# Altium footprint library connector.PcbLib: 63 footprints (part 4 of 4)
Each footprint in its own frame and in the unit in brackets; x right, y up, seen from the top. Pads: shape width x height; smd on the part's side, far side on the other; paste and mask are expansions set on the pad; w line width, h text height; cw(c..) or ccw(c..) is an arc to the next point about the centre after c.
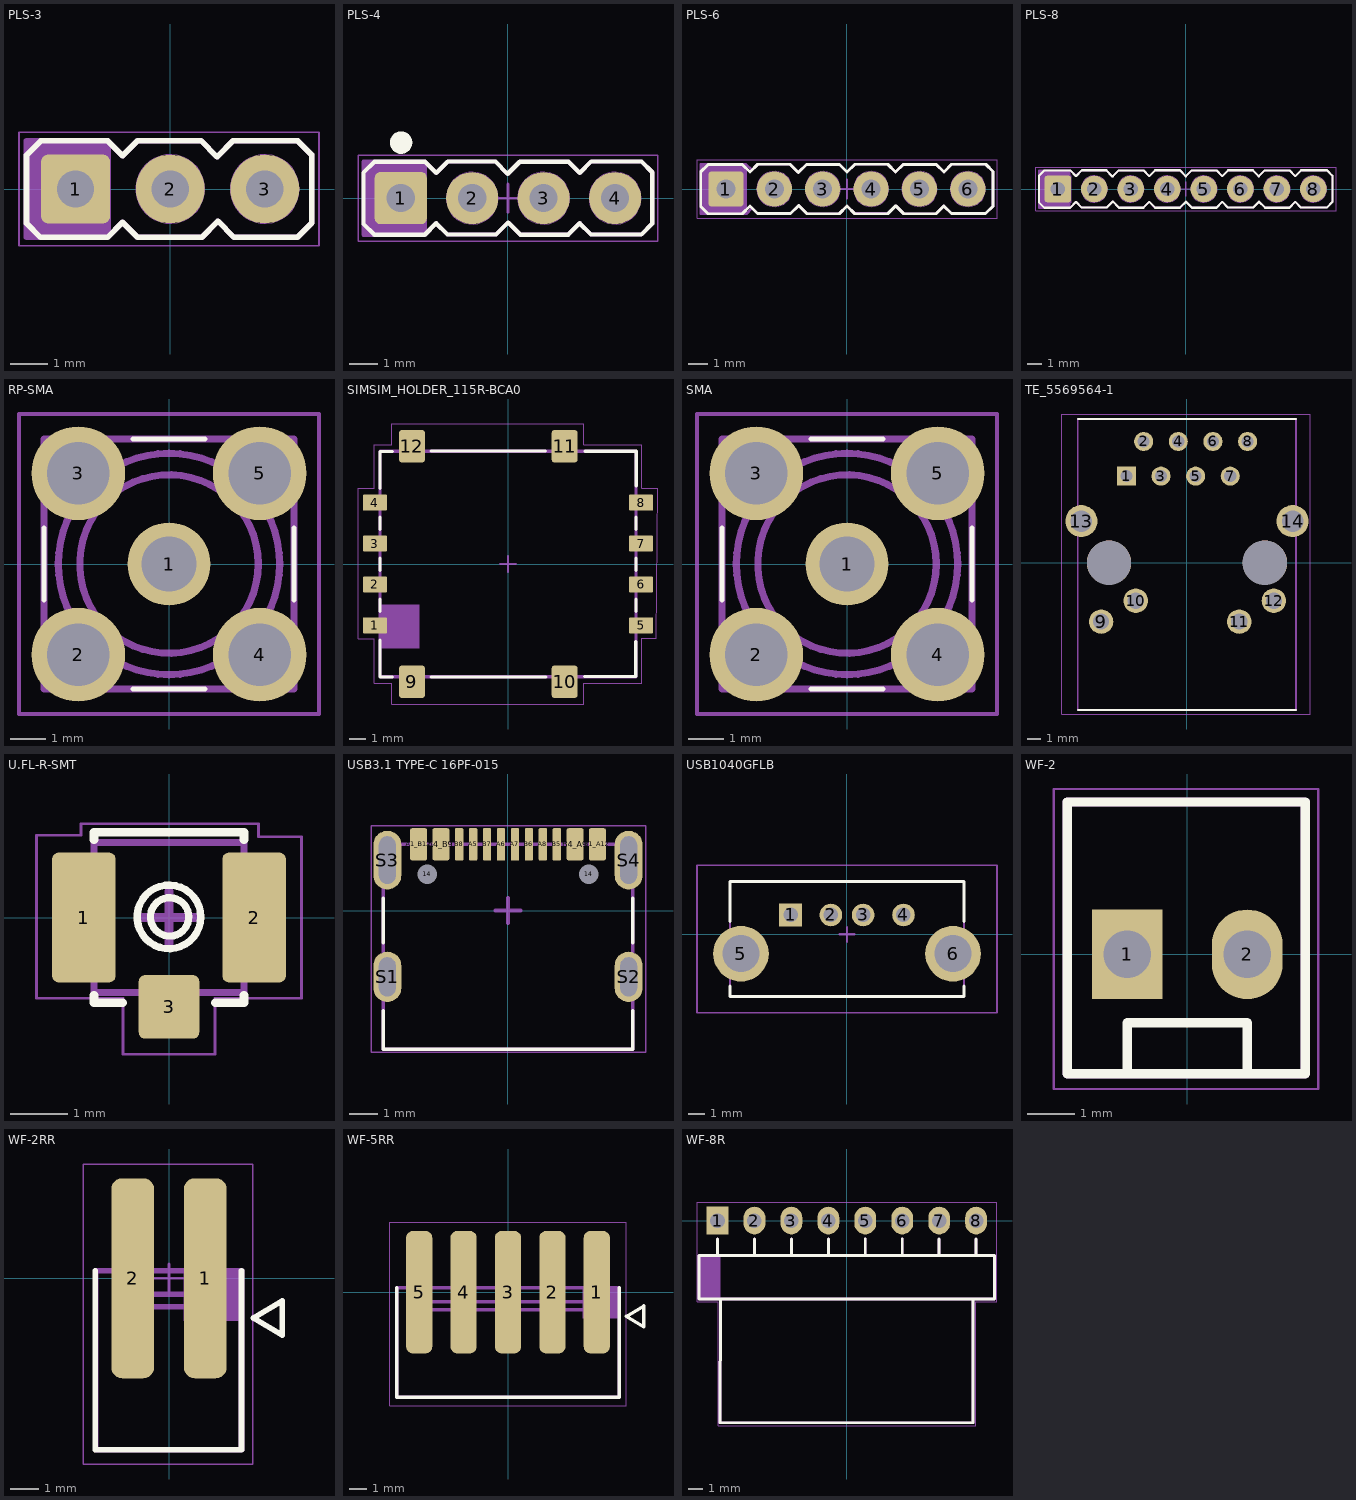
[diagram p3: the footprints below, top view; thin cyan lines are the x and y axes]

## PLS-3 [mm]
pads (3):
  rrect20% 1.85x1.85 hole 1: 1(-2.54,0)
  round 1.85 hole 1: 2(0,0) 3(2.54,0)
Top Overlay:
  lines w0.15: 1.26,-0.884 0.85,-1.294 -0.88,-1.294 -1.281,-0.893 -1.689,-1.3 -3.48,-1.3 -3.86,-0.92 -3.86,0.906 -3.471,1.294 -1.68,1.294 -1.279,0.893 -0.871,1.3 0.823,1.3 1.26,0.863 ; 1.28,-0.863 1.717,-1.3 3.411,-1.3 3.8,-0.911 3.8,0.914 3.42,1.294 1.69,1.294 1.28,0.884
Top Designator:
  text ".Designator" at -3.079,1.875 h0.6
Top Assembly:
  rectangle: -3.86,-1.3 -1.594,1.294
  lines w0.15: 1.26,-0.884 0.85,-1.294 -0.88,-1.294 -1.281,-0.893 -1.689,-1.3 -3.86,-1.3 -3.86,1.294 -1.68,1.294 -1.279,0.893 -0.871,1.3 0.823,1.3 1.26,0.863 ; 1.28,-0.863 1.717,-1.3 3.411,-1.3 3.8,-0.911 3.8,0.914 3.42,1.294 1.69,1.294 1.28,0.884
Bottom Assembly:
  circle w0.01: c0,0 r0.925
  circle w0.01: c2.54,0 r0.925
  lines w0.01: -3.465,-0.925 -3.465,0.925 -1.615,0.925 -1.615,-0.925 -3.465,-0.925
  text "1" at -2.73,-0.5 h1.5
Top Courtyard:
  lines w0.05: -4.06,-1.524 -4.06,1.524 3.995,1.524 3.995,-1.524 -4.06,-1.524
  lines w0.1: -0.5,0 0.5,0 ; 0,-0.5 0,0.5
3D body "PLS-3.step": height 8.7, standoff -2.9, extent -3.81,-1.27 3.81,1.27

## PLS-4 [mm]
pads (4):
  rrect20% 1.85x1.85 hole 1: 1(-3.81,0)
  round 1.85 hole 1: 2(-1.27,0) 3(1.27,0) 4(3.81,0)
Top Overlay:
  circle w0.4: c-3.8,1.975 r0.2
  lines w0.15: -0.01,-0.884 -0.42,-1.294 -2.15,-1.294 -2.551,-0.893 -2.959,-1.3 -4.75,-1.3 -5.13,-0.92 -5.13,0.906 -4.741,1.294 -2.95,1.294 -2.549,0.893 -2.141,1.3 -0.447,1.3 -0.01,0.863 ; 0.01,-0.863 0.447,-1.3 2.141,-1.3 2.549,-0.893 2.95,-1.294 4.741,-1.294 5.13,-0.906 5.13,0.92 4.75,1.3 2.959,1.3 2.551,0.893 2.15,1.294 0.42,1.294 0.01,0.884
Top Designator:
  text ".Designator" at -2.999,1.8 h0.6
Top Assembly:
  rectangle: -5.13,-1.3 -2.874,1.294
  lines w0.15: -0.01,-0.884 -0.42,-1.294 -2.15,-1.294 -2.551,-0.893 -2.959,-1.3 -5.13,-1.3 -5.13,1.294 -2.95,1.294 -2.549,0.893 -2.141,1.3 -0.447,1.3 -0.01,0.863 ; 0.01,-0.863 0.447,-1.3 2.141,-1.3 2.549,-0.893 2.95,-1.294 4.741,-1.294 5.13,-0.906 5.13,0.92 4.75,1.3 2.959,1.3 2.551,0.893 2.15,1.294 0.42,1.294 0.01,0.884
Bottom Assembly:
  circle w0.01: c-1.27,0 r0.925
  circle w0.01: c1.27,0 r0.925
  circle w0.01: c3.81,0 r0.925
  lines w0.01: -4.735,-0.925 -4.735,0.925 -2.885,0.925 -2.885,-0.925 -4.735,-0.925
  text "1" at -4,-0.5 h1.5
  text "4" at 3.425,-0.45 h1.5
Top Courtyard:
  lines w0.05: -5.33,-1.524 -5.33,1.524 5.334,1.524 5.334,-1.524 -5.33,-1.524
  lines w0.1: -0.5,0 0.5,0 ; 0,-0.5 0,0.5
3D body "PLS-4.step": height 8.6, standoff -3, extent -5.08,-1.27 5.08,1.27

## PLS-6 [mm]
pads (6):
  rrect20% 1.85x1.85 hole 1: 1(-6.35,0)
  round 1.85 hole 1: 2(-3.81,0) 3(-1.27,0) 4(1.27,0) 5(3.81,0) 6(6.35,0)
Top Overlay:
  lines w0.15: -2.55,-0.884 -2.96,-1.294 -4.69,-1.294 -5.091,-0.893 -5.499,-1.3 -7.29,-1.3 -7.67,-0.92 -7.67,0.906 -7.281,1.294 -5.49,1.294 -5.089,0.893 -4.681,1.3 -2.987,1.3 -2.55,0.863 ; -2.53,-0.863 -2.093,-1.3 -0.399,-1.3 0.009,-0.893 0.416,-1.3 2.141,-1.3 2.564,-0.877 2.987,-1.3 4.681,-1.3 5.089,-0.893 5.49,-1.294 7.281,-1.294 7.67,-0.906 7.67,0.92 7.29,1.3 5.499,1.3 5.091,0.893 4.69,1.294 2.96,1.294 2.55,0.884 ; -2.53,0.884 -2.12,1.294 -0.39,1.294 0.011,0.893 0.419,1.3 2.144,1.3 2.551,0.893
Top Designator:
  text ".Designator" at -2.624,1.825 h0.6
Top Assembly:
  rectangle: -7.67,-1.3 -5.25,1.294
  lines w0.15: -2.55,-0.884 -2.96,-1.294 -4.69,-1.294 -4.981,-1.003 -5.277,-1.3 -7.67,-1.3 -7.67,1.294 -5.294,1.294 -4.991,0.991 -4.681,1.3 -2.987,1.3 -2.55,0.863 ; -2.53,-0.863 -2.093,-1.3 -0.399,-1.3 0.009,-0.893 0.41,-1.294 2.147,-1.294 2.549,-0.893 ; -2.53,0.884 -2.12,1.294 -0.39,1.294 0.011,0.893 0.419,1.3 2.144,1.3 2.551,0.893 ; 2.55,0.884 2.96,1.294 4.69,1.294 5.091,0.893 5.499,1.3 7.29,1.3 7.67,0.92 7.67,-0.906 7.281,-1.294 5.49,-1.294 5.089,-0.893 4.681,-1.3 2.987,-1.3 2.591,-0.904
Bottom Assembly:
  circle w0.01: c-3.81,0 r0.925
  circle w0.01: c-1.27,0 r0.925
  circle w0.01: c1.27,0 r0.925
  circle w0.01: c3.81,0 r0.925
  circle w0.01: c6.35,0 r0.925
  lines w0.01: -7.275,-0.925 -7.275,0.925 -5.425,0.925 -5.425,-0.925 -7.275,-0.925
  text "1" at -6.54,-0.5 h1.5
  text "4" at 0.885,-0.45 h1.5
  text "4" at 5.965,-0.45 h1.5
Top Courtyard:
  lines w0.05: -7.87,-1.524 -7.87,1.524 7.882,1.524 7.882,-1.524 -7.87,-1.524
  lines w0.1: -0.5,0 0.5,0 ; 0,-0.5 0,0.5
3D body "PLS-6.step": height 8.7, standoff -2.9, extent -7.62,-1.27 7.62,1.27

## PLS-8 [mm]
pads (8):
  rrect20% 1.85x1.85 hole 1: 1(-8.89,0)
  round 1.85 hole 1: 2(-6.35,0) 3(-3.81,0) 4(-1.27,0) 5(1.27,0) 6(3.81,0) 7(6.35,0) 8(8.89,0)
Top Overlay:
  lines w0.15: -5.09,-0.884 -5.5,-1.294 -7.23,-1.294 -7.631,-0.893 -8.039,-1.3 -9.83,-1.3 -10.21,-0.92 -10.21,0.906 -9.821,1.294 -8.03,1.294 -7.629,0.893 -7.221,1.3 -5.527,1.3 -5.09,0.863 ; -5.07,-0.863 -4.633,-1.3 -2.939,-1.3 -2.531,-0.893 -2.124,-1.3 -0.399,-1.3 0.024,-0.877 0.447,-1.3 2.141,-1.3 2.549,-0.893 2.95,-1.294 4.687,-1.294 5.104,-0.877 5.527,-1.3 7.221,-1.3 7.629,-0.893 8.03,-1.294 9.821,-1.294 10.21,-0.906 10.21,0.92 9.83,1.3 8.039,1.3 7.631,0.893 7.23,1.294 5.5,1.294 5.091,0.885 4.676,1.3 2.959,1.3 2.551,0.893 2.15,1.294 0.42,1.294 0.01,0.884 ; -5.07,0.884 -4.66,1.294 -2.93,1.294 -2.529,0.893 -2.121,1.3 -0.396,1.3 0.011,0.893
Top Designator:
  text ".Designator" at -3.039,2.05 h0.6
Top Assembly:
  rectangle: -10.21,-1.3 -8.003,1.294
  lines w0.15: -5.09,-0.884 -5.5,-1.294 -7.23,-1.294 -7.63,-0.894 -8.037,-1.3 -10.21,-1.3 -10.21,1.294 -8.017,1.294 -7.622,0.899 -7.221,1.3 -5.527,1.3 -5.09,0.863 ; -5.07,-0.863 -4.633,-1.3 -2.939,-1.3 -2.531,-0.893 -2.13,-1.294 -0.393,-1.294 0.009,-0.893 ; -5.07,0.884 -4.66,1.294 -2.93,1.294 -2.529,0.893 -2.121,1.3 -0.396,1.3 0.011,0.893 ; 0.01,0.884 0.42,1.294 2.15,1.294 2.551,0.893 2.959,1.3 4.676,1.3 5.091,0.885 5.5,1.294 7.23,1.294 7.631,0.893 8.039,1.3 9.83,1.3 10.21,0.92 10.21,-0.906 9.821,-1.294 8.03,-1.294 7.629,-0.893 7.221,-1.3 5.527,-1.3 5.104,-0.877 4.687,-1.294 2.95,-1.294 2.549,-0.893 2.141,-1.3 0.447,-1.3 0.051,-0.904
Bottom Assembly:
  circle w0.01: c3.81,0 r0.925
  circle w0.01: c1.27,0 r0.925
  circle w0.01: c-1.27,0 r0.925
  circle w0.01: c-3.81,0 r0.925
  circle w0.01: c-6.35,0 r0.925
  circle w0.01: c8.89,0 r0.925
  circle w0.01: c6.35,0 r0.925
  lines w0.01: -9.815,-0.925 -7.965,-0.925 -7.965,0.925 -9.815,0.925 -9.815,-0.925
  text "4" at 3.425,-0.45 h1.5
  text "4" at -1.655,-0.45 h1.5
  text "1" at -9.08,-0.5 h1.5
  text "4" at 8.505,-0.45 h1.5
Top Courtyard:
  lines w0.05: -10.41,-1.524 10.46,-1.524 10.46,1.524 -10.41,1.524 -10.41,-1.524
  lines w0.1: -0.541,0 0.543,0 ; 0,-0.499 0,0.501
3D body "PLS-8.step": height 8.6, standoff -3, extent -10.16,-1.27 10.16,1.27

## RP-SMA [mm] "RP-SMA Connector Jack, Male Pin 50 Ohms Through Hole Solder"
pads (5):
  round 2.325 hole 1.55: 1(0,0)
  round 2.625 hole 1.75: 2(-2.54,-2.54) 3(-2.54,2.54) 4(2.54,-2.54) 5(2.54,2.54)
Top Overlay:
  lines w0.15: -3.5,-1 -3.5,1 ; -1,-3.5 1,-3.5 ; -1,3.5 1,3.5 ; 3.5,-1 3.5,1
Top Designator:
  text ".Designator" at -3.199,4.7 h0.6
Top Assembly:
  circle w0.2: c0,0 r0.5
  circle w0.2: c0,0 r3.1
  circle w0.2: c0,0 r2.5
  lines w0.2: -3.5,-3.5 -3.5,3.5 3.5,3.5 3.5,-3.5 -3.5,-3.5
Top Courtyard:
  lines w0.1: -0.5,0 0.5,0 ; 0,-0.5 0,0.5 ; -4.2,-4.2 -4.2,4.2 4.2,4.2 4.2,-4.2 -4.2,-4.2
3D body "1809925.stp": height 10.4, standoff -3.9, extent -3.5,-3.5 3.5,3.5

## SIMSIM_HOLDER_115R-BCA0 [mm]
pads (12):
  rrect15% 1.5x1 smd: 1(-8.25,-3.81) 2(-8.25,-1.27) 3(-8.25,1.27) 4(-8.25,3.81) 5(8.25,-3.81) 6(8.25,-1.27) 7(8.25,1.27) 8(8.25,3.81)
  rrect20% 1.6x2 smd: 9(-5.953,-7.3) 10(3.508,-7.3) 11(3.508,7.3) 12(-5.953,7.3)
Top Overlay:
  lines w0.2: -7.939,-2.935 -7.939,-2.173 ; -7.939,-0.395 -7.939,0.367 ; -7.939,2.145 -7.939,2.907 ; -7.934,-4.713 -7.934,-7.004 -7.172,-7.004 ; -7.934,4.685 -7.934,6.976 -7.172,6.976 ; -4.78,6.998 2.332,6.998 ; -4.759,-6.999 2.353,-6.999 ; 4.741,-6.974 7.916,-6.974 7.916,-4.815 ; 4.778,6.99 7.953,6.99 7.953,4.831 ; 7.936,-2.935 7.936,-2.173 ; 7.936,-0.395 7.936,0.367 ; 7.936,2.145 7.936,2.907
Top Designator:
  text ".Designator" at -3.749,9.3 h0.6
Top Assembly:
  rectangle: -8,-5.25 -5.5,-2.5
  lines w0.15: -7.93,-4.177 -8.68,-4.177 -8.68,-3.427 -7.93,-3.427 ; -7.93,-1.637 -8.68,-1.637 -8.68,-0.887 -7.93,-0.887 ; -7.93,0.903 -8.68,0.903 -8.68,1.653 -7.93,1.653 ; -7.93,3.443 -8.68,3.443 -8.68,4.193 -7.93,4.193 ; -6.462,7.009 -6.462,7.384 -5.462,7.384 -5.462,7.009 ; -6.443,-7.009 -6.443,-7.384 -5.443,-7.384 -5.443,-7.009 ; 2.998,7.009 2.998,7.384 3.998,7.384 3.998,7.009 ; 3.017,-7.009 3.017,-7.384 4.017,-7.384 4.017,-7.009 ; 7.93,-4.193 8.68,-4.193 8.68,-3.443 7.93,-3.443 ; 7.93,-1.653 8.68,-1.653 8.68,-0.903 7.93,-0.903 ; 7.93,0.887 8.68,0.887 8.68,1.637 7.93,1.637 ; 7.93,3.427 8.68,3.427 8.68,4.177 7.93,4.177
  lines w0.2: -7.938,-6.985 7.938,-6.985 7.938,6.985 -7.938,6.985 -7.938,-6.985
Top Courtyard:
  lines w0.05: -9.3,-4.624 -9.3,4.7 -8.3,4.7 -8.3,7.4 -7.2,7.4 -7.2,8.7 4.7,8.7 4.7,7.4 8.3,7.4 8.3,4.7 9.3,4.7 9.2,-4.6 8.3,-4.6 8.3,-7.4 4.7,-7.4 4.7,-8.7 -7.2,-8.7 -7.2,-7.4 -8.3,-7.4 -8.3,-4.624 -9.3,-4.624
  lines w0.1: -0.5,0 0.5,0 ; 0,-0.5 0,0.5
3D body "115R-BCA0_C_1.stp": height 1.47, standoff 0.06, extent -8.188,-7.414 8.215,7.436

## SMA [mm] "SMA JACK VERTICAL PCB 50 OHMS SMA-J/PCB"
pads (5):
  round 2.325 hole 1.55: 1(0,0)
  round 2.625 hole 1.75: 2(-2.54,-2.54) 3(-2.54,2.54) 4(2.54,-2.54) 5(2.54,2.54)
Top Overlay:
  lines w0.15: -3.5,-1 -3.5,1 ; -1,-3.5 1,-3.5 ; -1,3.5 1,3.5 ; 3.5,-1 3.5,1
Top Designator:
  text ".Designator" at -3.199,4.7 h0.6
Top Assembly:
  circle w0.2: c0,0 r2.5
  circle w0.2: c0,0 r3.1
  circle w0.2: c0,0 r0.5
  lines w0.2: -3.5,-3.5 3.5,-3.5 3.5,3.5 -3.5,3.5 -3.5,-3.5
Top Courtyard:
  lines w0.1: -0.5,0 0.5,0 ; 0,-0.5 0,0.5 ; -4.2,-4.2 4.2,-4.2 4.2,4.2 -4.2,4.2 -4.2,-4.2
3D body "485871.stp": height 9.6, standoff -3.9, extent -3.5,-3.5 3.5,3.5

## TE_5569564-1 [mm]
pads (16):
  rect 1.398x1.398 / inner round 1.398 / far side rect 1.398x1.398 hole 0.89 mask+0.102: 1(-4.445,6.35)
  round 1.398 hole 0.89 mask+0.102: 2(-3.175,8.89) 3(-1.905,6.35) 4(-0.635,8.89) 5(0.635,6.35) 6(1.905,8.89) 7(3.175,6.35) 8(4.445,8.89)
  round 1.785 hole 1.19 mask+0.102: 9(-6.295,-4.32) 10(-3.755,-2.79) 11(3.835,-4.32) 12(6.375,-2.79)
  round 2.355 hole 1.57 mask+0.102: 13(-7.745,3.05) 14(7.745,3.05)
  round 3.25 hole 3.25 unplated mask+0: ""(-5.715,0) ""(5.715,0)
Top Overlay:
  lines w0.127: -8,-10.8 8,-10.8 ; -8,10.54 8,10.54
Top Assembly:
  circle w0.2: c-4.445,6.35 r0.1
  lines w0.127: -8,-10.8 -8,10.54 ; 8,-10.8 8,10.54
Top Courtyard:
  lines w0.05: -9.195,-11.095 -9.195,10.905 9.055,10.905 9.055,-11.095 -9.195,-11.095
3D body "step_temp.STEP": height 14.72, standoff -4.06, extent -7.871,-10.795 7.871,10.541

## U.FL-R-SMT [mm]
pads (3):
  rrect20% 1.1x2.25 smd: 1(-1.475,0) 2(1.475,0)
  rrect20% 1.05x1.1 smd: 3(0,-1.55)
Top Overlay:
  circle w0.127: c0.01,0.01 r0.332
  circle w0.127: c0,0.01 r0.552
  lines w0.15: -1.3,-1.35 -1.3,-1.475 -0.8,-1.475 ; -1.3,1.35 -1.3,1.475 1.3,1.475 1.3,1.35 ; 0.8,-1.475 1.3,-1.475 1.3,-1.35
Top Designator:
  text ".Designator" at -2.999,2.3 h0.6
Top Assembly:
  lines w0.127: -1.57,-0.87 -1.57,0.87 ; -1.57,-0.87 -1.3,-0.87 ; -1.57,-0.87 -1.3,-0.87 ; -1.57,-0.87 -1.57,0.87 ; -1.57,0.87 -1.33,0.87 ; -1.57,0.87 -1.33,0.87 ; -1.33,0.87 -1.33,0.88 -1.33,0.87 ; -1.3,-1.3 1.3,-1.3 ; -1.3,-1.3 1.3,-1.3 ; -1.3,-1.3 -1.3,-0.87 ; -1.3,-1.3 -1.3,-0.87 ; -1.3,-0.87 -1.3,1.3 1.3,1.3 ; 1.3,-1.3 1.3,1.3 ; 1.3,-1.3 1.3,1.3 ; 1.57,-0.87 1.57,0.87 ; 1.57,-0.87 1.57,0.87 ; 1.57,-0.87 1.34,-0.87 1.57,-0.87 ; 1.57,0.87 1.38,0.87 1.57,0.87 ; 1.34,-0.91 1.34,-0.9 1.34,-0.91
Top Courtyard:
  lines w0.05: -2.3,-1.4 -2.3,1.425 -1.525,1.425 -1.525,1.625 -0.075,1.625 1.55,1.625 1.55,1.4 2.3,1.4 2.3,-1.4 0.8,-1.4 0.8,-2.37 -0.8,-2.37 -0.8,-1.4 -2.3,-1.4
  lines w0.15: -0.45,0 0.45,0 ; 0,-0.45 0,0.45
3D body "u.Fl Antenna Connector - 523-A-1JB.STEP": height 1.35, standoff 0.1, extent -1.475,-1.55 1.525,1.55

## USB3.1 TYPE-C 16PF-015 [mm]
pads (18):
  round 0.35 hole 0.7 unplated: 14(-2.89,1.308) 14(2.89,1.308)
  rrect20% 0.6x1.15 smd: A1_B12(-3.2,2.373) A4_B9(-2.4,2.373) B1_A12(3.2,2.373) B4_A9(2.4,2.373)
  rrect20% 0.3x1.15 smd: A5(-1.25,2.373) A6(-0.25,2.373) A7(0.25,2.373) A8(1.25,2.373) B5(1.75,2.373) B6(0.75,2.373) B7(-0.75,2.373) B8(-1.75,2.373)
  oval 1x1.8 hole 0.6 slot 1.4 at 90 deg mask+0.05: S1(-4.32,-2.372) S2(4.32,-2.372)
  oval 1x2.1 hole 0.6 slot 1.7 at 90 deg mask+0.05: S3(-4.32,1.808) S4(4.32,1.808)
Top Overlay:
  lines w0.127: -4.47,-3.592 -4.47,-4.972 4.47,-4.972 4.47,-3.592 ; -4.47,-1.152 -4.47,0.438 ; 4.47,-1.152 4.47,0.438
Top Designator:
  text ".Designator" at -2.999,3.55 h0.6
Top Assembly:
  lines w0.127: -4.47,-4.972 4.47,-4.972 4.47,2.378 -4.47,2.378 -4.47,-4.972
Top Courtyard:
  lines w0.05: -4.9,-5.067 4.925,-5.067 4.925,3.033 -4.9,3.033 -4.9,-5.067
  lines w0.15: -0.45,0 0.45,0 ; 0,-0.45 0,0.45
3D body "step_temp.STEP": height 3.26, standoff -0.9, extent -4.47,-4.972 4.47,2.628

## USB1040GFLB [mm]
pads (6):
  rect 1.4x1.4 hole 0.9: 1(-3.5,1.2)
  round 1.4 hole 0.9: 2(-1,1.2) 3(1,1.2) 4(3.5,1.2)
  round 3.45 hole 2.3: 5(-6.57,-1.2) 6(6.57,-1.2)
Top Overlay:
  lines w0.2: -7.25,-3.2 -7.25,-3.85 7.25,-3.85 7.25,-3.2 ; -7.25,0.8 -7.25,3.27 7.25,3.27 7.25,0.8
Top Designator:
  text ".Designator" at -8.424,4.875 h0.6
Top Assembly:
  lines w0.1: -7.25,-3.85 7.25,-3.85 7.25,3.27 -7.25,3.27 -7.25,-3.85
Top Courtyard:
  lines w0.1: -9.295,-4.85 9.295,-4.85 9.295,4.27 -9.295,4.27 -9.295,-4.85
  lines w0.15: -0.45,0 0.45,0 ; 0,-0.45 0,0.45
3D body "USB1040-GF-L-B.stp": height 13.74, standoff -3.46, extent -7.799,-3.61 7.8,3.51

## WF-2 [mm]
pads (2):
  rect 1.5x1.9 hole 1: 1(-1.27,0)
  oval 1.5x1.9 hole 1: 2(1.27,0)
Top Overlay:
  lines w0.2: -2.54,3.2 -2.54,-2.525 2.5,-2.525 2.5,3.225 -2.54,3.225 ; -1.27,-2.4 -1.27,-1.451 1.27,-1.443 1.27,-2.4
Top Assembly:
  lines w0.2: -2.542,-2.525 -2.542,3.225 2.5,3.225 2.5,-2.525 -2.542,-2.525
Top Courtyard:
  lines w0.05: -2.825,-2.85 2.775,-2.85 2.775,3.5 -2.825,3.5 -2.825,-2.85
3D body "WF-2-gold.step": height 11.3, standoff -3.4, extent -2.565,-2.625 2.515,3.175

## WF-2RR [mm]
pads (2):
  rrect50% 1.5x7 smd paste-25.4: 1(1.27,0) 2(-1.27,0)
Top Overlay:
  lines w0.2: -2.582,0.26 -2.582,-6 2.54,-6 2.54,0.26 ; 2.96,-1.39 3.96,-0.79 3.96,-1.99 2.96,-1.39
Top Paste:
  region: -1.977,-3.1 -1.95,-3.237 -1.872,-3.352 -1.757,-3.43 -1.62,-3.457 -0.92,-3.457 -0.783,-3.43 -0.668,-3.352 -0.59,-3.237 -0.563,-3.1 -0.563,3.1 -0.59,3.237 -0.668,3.352 -0.783,3.43 -0.92,3.457 -1.62,3.457 -1.757,3.43 -1.872,3.352 -1.95,3.237 -1.977,3.1
  region: 0.563,-3.1 0.59,-3.237 0.668,-3.352 0.783,-3.43 0.92,-3.457 1.62,-3.457 1.757,-3.43 1.872,-3.352 1.95,-3.237 1.977,-3.1 1.977,3.1 1.95,3.237 1.872,3.352 1.757,3.43 1.62,3.457 0.92,3.457 0.783,3.43 0.668,3.352 0.59,3.237 0.563,3.1
Top Designator:
  text ".Designator" at -2.749,-7.2 h0.6
Top Assembly:
  rectangle: 0.5,-1.5 2.54,0.26
  lines w0.15: -1.651,0.272 -1.651,3.005 ; -1.634,3.022 -0.94,3.022 -0.94,0.272 ; 0.889,0.272 0.889,3.005 ; 0.906,3.022 1.6,3.022 1.6,0.272 ; -1.638,-1.754 -0.923,-1.754 ; -1.638,-1.754 -0.923,-1.754 ; -1.638,-1.754 -1.638,-2.5 -0.923,-2.5 -0.923,-1.754 ; 0.902,-2.5 1.617,-2.5 1.617,-1.754 0.902,-1.754 0.902,-2.5
  lines w0.2: -1.44,-0.554 -1.44,0.266 ; -1.436,-0.55 -1.436,-0.554 1.44,-0.554 1.44,0.214 ; -0.94,-0.55 -0.94,-1 0.94,-1 0.94,-0.55 ; -2.56,-6 2.54,-6 2.54,0.26 -2.56,0.26 -2.56,-6
Top Courtyard:
  lines w0.05: -3,-6.5 -3,4 2.94,4 2.94,-6.5 -3,-6.5
  lines w0.1: -0.5,0 0.5,0 ; 0,-0.5 0,0.5
3D body "WF-2R.step": height 14.3, standoff 0.08, extent -2.561,-6 2.519,3.2

## WF-5RR [mm]
pads (5):
  rrect50% 1.5x7 smd paste-25.4: 1(5.08,0) 2(2.54,0) 3(0,0) 4(-2.54,0) 5(-5.08,0)
Top Overlay:
  lines w0.2: -6.35,0.26 -6.35,-6 6.35,-6 6.35,0.26 ; 6.77,-1.39 7.77,-0.79 7.77,-1.99 6.77,-1.39
Top Paste:
  region: -0.707,-3.1 -0.68,-3.237 -0.602,-3.352 -0.487,-3.43 -0.35,-3.457 0.35,-3.457 0.487,-3.43 0.602,-3.352 0.68,-3.237 0.707,-3.1 0.707,3.1 0.68,3.237 0.602,3.352 0.487,3.43 0.35,3.457 -0.35,3.457 -0.487,3.43 -0.602,3.352 -0.68,3.237 -0.707,3.1
  region: 1.833,-3.1 1.86,-3.237 1.938,-3.352 2.053,-3.43 2.19,-3.457 2.89,-3.457 3.027,-3.43 3.142,-3.352 3.22,-3.237 3.247,-3.1 3.247,3.1 3.22,3.237 3.142,3.352 3.027,3.43 2.89,3.457 2.19,3.457 2.053,3.43 1.938,3.352 1.86,3.237 1.833,3.1
  region: 4.373,-3.1 4.4,-3.237 4.478,-3.352 4.593,-3.43 4.73,-3.457 5.43,-3.457 5.567,-3.43 5.682,-3.352 5.76,-3.237 5.787,-3.1 5.787,3.1 5.76,3.237 5.682,3.352 5.567,3.43 5.43,3.457 4.73,3.457 4.593,3.43 4.478,3.352 4.4,3.237 4.373,3.1
  region: -5.787,-3.1 -5.76,-3.237 -5.682,-3.352 -5.567,-3.43 -5.43,-3.457 -4.73,-3.457 -4.593,-3.43 -4.478,-3.352 -4.4,-3.237 -4.373,-3.1 -4.373,3.1 -4.4,3.237 -4.478,3.352 -4.593,3.43 -4.73,3.457 -5.43,3.457 -5.567,3.43 -5.682,3.352 -5.76,3.237 -5.787,3.1
  region: -3.247,-3.1 -3.22,-3.237 -3.142,-3.352 -3.027,-3.43 -2.89,-3.457 -2.19,-3.457 -2.053,-3.43 -1.938,-3.352 -1.86,-3.237 -1.833,-3.1 -1.833,3.1 -1.86,3.237 -1.938,3.352 -2.053,3.43 -2.19,3.457 -2.89,3.457 -3.027,3.43 -3.142,3.352 -3.22,3.237 -3.247,3.1
Top Designator:
  text ".Designator" at -5.999,-6.7 h0.6
Top Assembly:
  rectangle: 4.25,-1.5 6.29,0.26
  lines w0.15: -5.44,0.284 -5.44,3.017 ; -5.423,3.034 -4.729,3.034 -4.729,0.284 ; -2.921,0.272 -2.921,3.005 ; -2.904,3.022 -2.21,3.022 -2.21,0.272 ; -0.381,0.272 -0.381,3.005 ; -0.364,3.022 0.33,3.022 0.33,0.272 ; 2.159,0.272 2.159,3.005 ; 2.176,3.022 2.87,3.022 2.87,0.272 ; 4.699,0.272 4.699,3.005 ; 4.716,3.022 5.41,3.022 5.41,0.272 ; -5.448,-2.5 -4.733,-2.5 -4.733,-1.754 -5.448,-1.754 -5.448,-2.5 ; -2.908,-2.5 -2.193,-2.5 -2.193,-1.754 -2.908,-1.754 -2.908,-2.5 ; -0.368,-2.5 0.347,-2.5 0.347,-1.754 -0.368,-1.754 -0.368,-2.5 ; 2.172,-2.5 2.172,-1.754 2.887,-1.754 2.887,-2.5 2.172,-2.5 ; 4.712,-2.5 5.427,-2.5 5.427,-1.754 4.712,-1.754 4.712,-2.5
  lines w0.2: -5.25,0.266 -5.25,-0.554 5.25,-0.554 5.25,0.214 ; -4.75,-0.55 -4.75,-1 4.75,-1 4.75,-0.55 ; -6.35,-6 6.35,-6 6.35,0.26 -6.35,0.26 -6.35,-6
Top Courtyard:
  lines w0.05: -6.75,-6.5 -6.75,4 6.75,4 6.75,-6.5 -6.75,-6.5
  lines w0.1: -0.5,0 0.5,0 ; 0,-0.5 0,0.5
3D body "WF-5R.step": height 14.3, standoff 0.08, extent -6.371,-6.021 6.329,3.179

## WF-8R [mm]
pads (8):
  rect 1.5x1.9 hole 1: 1(-8.89,0)
  oval 1.5x1.9 hole 1: 2(-6.35,0) 3(-3.81,0) 4(-1.27,0) 5(1.27,0) 6(3.81,0) 7(6.35,0) 8(8.89,0)
Top Overlay:
  lines w0.2: -8.89,-2.4 -8.89,-1.275 ; -8.684,-5.401 -8.709,-13.9 8.675,-13.9 8.675,-5.45 ; -6.35,-2.4 -6.35,-1.275 ; -3.81,-2.4 -3.81,-1.275 ; -1.27,-2.4 -1.27,-1.275 ; 1.27,-2.4 1.27,-1.275 ; 3.81,-2.4 3.81,-1.275 ; 6.35,-2.4 6.35,-1.275 ; 8.89,-2.4 8.89,-1.275 ; 10.16,-5.4 -10.16,-5.4 -10.16,-2.4 10.16,-2.4 10.16,-5.375
Bottom Dimensions:
  rectangle: -10.1,-5.401 -8.684,-2.45
  lines w0.2: -8.89,-2.4 -8.89,-1.275 ; -8.684,-5.401 -8.709,-13.9 8.45,-13.9 ; -6.35,-2.4 -6.35,-1.275 ; -3.81,-2.4 -3.81,-1.275 ; -1.27,-2.4 -1.27,-1.275 ; 1.27,-2.4 1.27,-1.275 ; 3.81,-2.4 3.81,-1.275 ; 6.35,-2.4 6.35,-1.275 ; 8.675,-13.9 8.675,-5.45 ; 8.89,-2.4 8.89,-1.275 ; -10.16,-5.4 10.16,-5.4 10.16,-2.4 -10.16,-2.4 -10.16,-5.4
  text ".Designator" at 3.415,1.51 h1
Top Assembly:
  lines w0.2: -8.89,-2.4 -8.89,-1.275 ; -8.709,-13.9 8.45,-13.9 ; -6.35,-2.4 -6.35,-1.275 ; -3.81,-2.4 -3.81,-1.275 ; -1.27,-2.4 -1.27,-1.275 ; 1.27,-2.4 1.27,-1.275 ; 3.81,-2.4 3.81,-1.275 ; 6.35,-2.4 6.35,-1.275 ; 8.89,-2.4 8.89,-1.275 ; -10.16,-5.4 10.16,-5.4 10.16,-2.4 -10.16,-2.4 -10.16,-5.4
Top Courtyard:
  lines w0.05: -10.3,-5.6 -8.85,-5.6 -8.85,-14.1 8.875,-14.1 8.875,-5.575 10.325,-5.575 10.325,1.25 -10.3,1.25 -10.3,-5.6
3D body "WF-8R.step": height 5.8, standoff -3.4, extent -10.16,-13.9 10.16,0.32